# Altium footprint library SW-TH.PcbLib: 1 footprints
Each footprint in its own frame and in the unit in brackets; x right, y up, seen from the top. Pads: shape width x height; smd on the part's side, far side on the other; paste and mask are expansions set on the pad; w line width, h text height; cw(c..) or ccw(c..) is an arc to the next point about the centre after c.
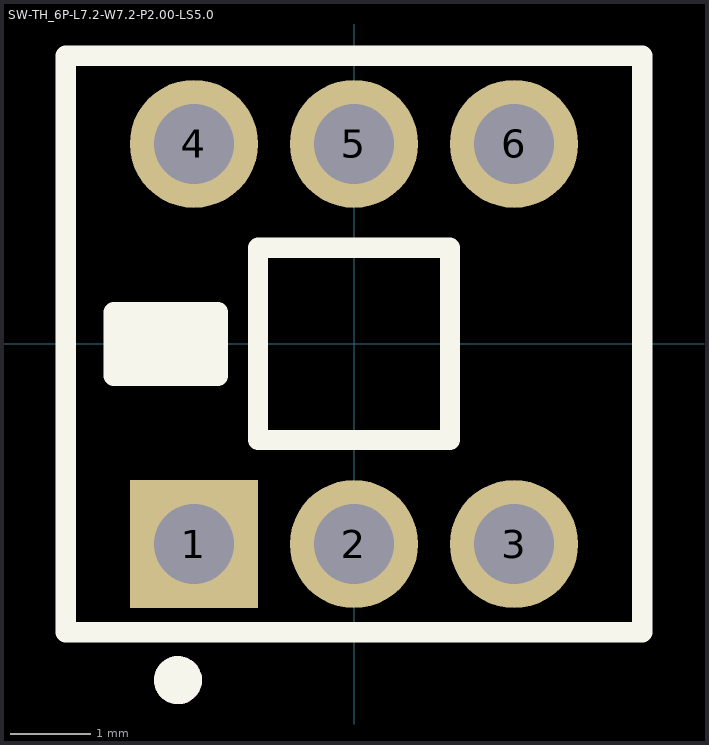
[diagram p0: the footprint, top view; thin cyan lines are the x and y axes]

## SW-TH_6P-L7.2-W7.2-P2.00-LS5.0 [mm]
pads (6):
  rect 1.6x1.6 hole 1 paste-2539.97 mask+0.051: 1(-2,-2.5)
  round 1.6 hole 1 paste-2539.97 mask+0.051: 2(0,-2.5) 3(2,-2.5) 4(-2,2.5) 5(0,2.5) 6(2,2.5)
Top Overlay:
  circle w0.3: c-2.2,-4.2 r0.15
  region: -3,0.4 -3,-0.4 -1.8,-0.4 -1.8,0.4
  lines w0.254: -3.6,-3.6 -3.6,3.6 3.6,3.6 3.6,-3.6 -3.6,-3.6 ; -3,-0.4 -3,0.4 -1.7,0.4 -1.7,-0.4 -3,-0.4 ; -1.2,-1.2 -1.2,1.2 1.2,1.2 1.2,-1.2 -1.2,-1.2
Mechanical 15:
  circle w0.3: c-2.2,-4.2 r0.15
  region: -3,0.4 -3,-0.4 -1.8,-0.4 -1.8,0.4